# Altium schematic symbol library SKY67151-396LF.SchLib: 1 symbol
Pins are listed as number, name and electrical type; pins without a type are passive.

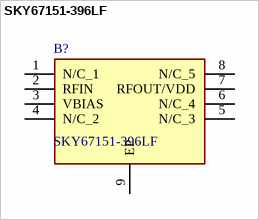
[diagram p0: symbol SKY67151-396LF]

## SKY67151-396LF
designator B?
RF Amplifier 700-3800MHz NF .6dB OP1dB 20dBm @2.5GHz; Manufacturer_Name: Skyworks; Geometry.Height: 0.8mm; Manufacturer_Part_Number: SKY67151-396LF; Mouser Part Number: 873-SKY67151-396LF; Mouser Price/Stock: https://www.mouser.co.uk/ProductDetail/Skyworks-Solutions-Inc/SKY67151-396LF?qs=Xju9evkTxaejMohAlwo9TA%3D%3D; Arrow Part Number: *; Arrow Price/Stock: *; Datasheet Link: https://datasheet.datasheetarchive.com/originals/distributors/DKDS-19/379330.pdf
footprint SON50P200X200X80-9N-D
pins: 1 N/C_1, 2 RFIN, 3 VBIAS, 4 N/C_2, 5 N/C_3, 6 N/C_4, 7 RFOUT/VDD, 8 N/C_5, 9 EP